# Altium footprint library 2.43-WSOF封装.PcbLib: 1 footprints
Each footprint in its own frame and in the unit in brackets; x right, y up, seen from the top. Pads: shape width x height; smd on the part's side, far side on the other; paste and mask are expansions set on the pad; w line width, h text height; cw(c..) or ccw(c..) is an arc to the next point about the centre after c.
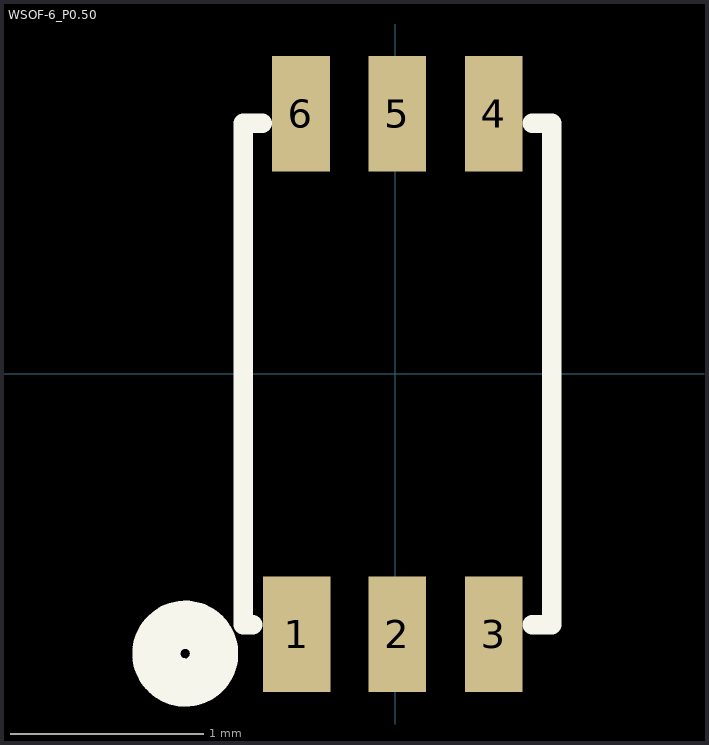
[diagram p0: the footprint, top view; thin cyan lines are the x and y axes]

## WSOF-6_P0.50 [mm] "封装库来自淘宝卖家 ID：黄晶宝石"
pads (6):
  rect 0.351x0.599 smd: 1(-0.511,-1.35)
  rect 0.3x0.6 smd: 2(0.01,-1.35) 3(0.511,-1.35)
  rect 0.3x0.599 smd: 4(0.51,1.35) 5(0.01,1.35) 6(-0.49,1.35)
Top Overlay:
  circle w0.25: c-1.09,-1.45 r0.15
  lines w0.102: -0.74,-1.3 -0.79,-1.3 -0.79,1.3 -0.69,1.3 ; 0.71,-1.3 0.81,-1.3 0.81,1.3 0.71,1.3
3D body: height 0.51, standoff 0.13, extent -0.825,-1.27 0.826,1.27